# EAGLE library part MODULO_CARGA_DEVICE (library Modulo_Carga)
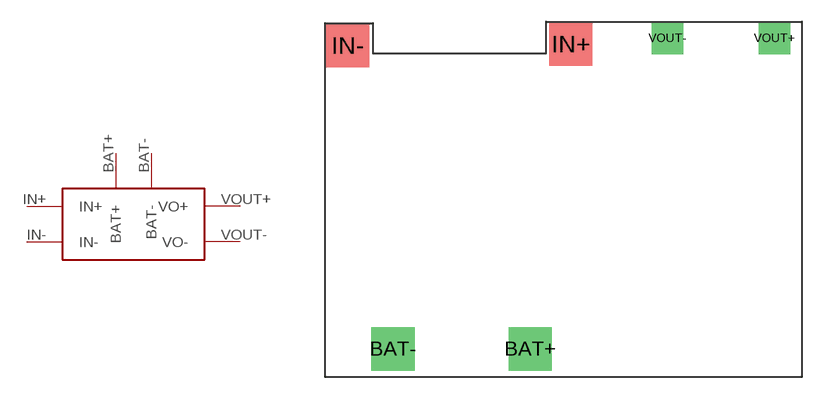
[diagram p0: symbol with the pads of MODULO_CARGA; footprint MODULO_CARGA]

Designator prefix -

## MODULO_CARGA_DEVICE  [MODULO_CARGA]
BAT+  BAT+
BAT-  BAT-
IN+  IN+
IN-  IN-
VOUT+  VO+
VOUT-  VO-

## Footprint MODULO_CARGA (pad centres in mm)
drill 1.3 pad 3 square: BAT+ -2.3,-10.35; BAT- -11.8,-10.35
smd 3 x 3: IN+ 0.5,10.75; IN- -14.95,10.65
drill 1.3 pad 2.2 square: VOUT+ 14.6,11.15; VOUT- 7.2,11.15